# Altium footprint library POWERSO-20_self_useable.PcbLib: 1 footprints
Each footprint in its own frame and in the unit in brackets; x right, y up, seen from the top. Pads: shape width x height; smd on the part's side, far side on the other; paste and mask are expansions set on the pad; w line width, h text height; cw(c..) or ccw(c..) is an arc to the next point about the centre after c.
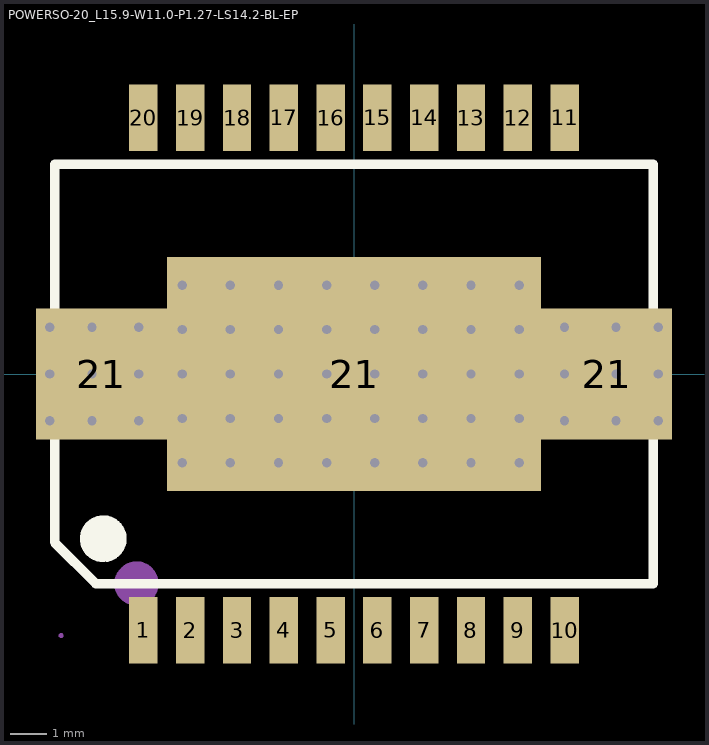
[diagram p0: the footprint, top view; thin cyan lines are the x and y axes]

## POWERSO-20_L15.9-W11.0-P1.27-LS14.2-BL-EP [mm]
pads (23):
  rect 0.772x1.8 smd paste+0 mask+0.051: 1(-5.715,-6.955) 2(-4.445,-6.958) 3(-3.175,-6.958) 4(-1.905,-6.958) 5(-0.635,-6.958) 6(0.635,-6.958) 7(1.905,-6.958) 8(3.175,-6.958) 9(4.445,-6.958) 10(5.715,-6.955) 11(5.715,6.955) 12(4.445,6.958) 13(3.175,6.958) 14(1.905,6.958) 15(0.635,6.958) 16(-0.635,6.958) 17(-1.905,6.958) 18(-3.175,6.958) 19(-4.445,6.958) 20(-5.715,6.955)
  rect 3.556x3.556 all layers, no hole: 21(-6.858,0) 21(6.858,0)
  rect 10.16x6.35 all layers, no hole: 21(0,0)
via -8.255,1.27 diameter 0.508 hole 0.254
via -7.112,1.27 diameter 0.508 hole 0.254
via -5.842,1.27 diameter 0.508 hole 0.254
via -8.255,0 diameter 0.508 hole 0.254
via -7.112,0 diameter 0.508 hole 0.254
via -5.842,0 diameter 0.508 hole 0.254
via -8.255,-1.27 diameter 0.508 hole 0.254
via -7.112,-1.27 diameter 0.508 hole 0.254
via -5.842,-1.27 diameter 0.508 hole 0.254
via -4.663,-2.413 diameter 0.508 hole 0.254
via -3.356,-2.413 diameter 0.508 hole 0.254
via -2.05,-2.413 diameter 0.508 hole 0.254
via -0.744,-2.413 diameter 0.508 hole 0.254
via 0.562,-2.413 diameter 0.508 hole 0.254
via 1.869,-2.413 diameter 0.508 hole 0.254
via 3.175,-2.413 diameter 0.508 hole 0.254
via 4.481,-2.413 diameter 0.508 hole 0.254
via -4.663,-1.206 diameter 0.508 hole 0.254
via -3.356,-1.206 diameter 0.508 hole 0.254
via -2.05,-1.206 diameter 0.508 hole 0.254
via -0.744,-1.206 diameter 0.508 hole 0.254
via 0.562,-1.206 diameter 0.508 hole 0.254
via 1.869,-1.206 diameter 0.508 hole 0.254
via 3.175,-1.206 diameter 0.508 hole 0.254
via 4.481,-1.206 diameter 0.508 hole 0.254
via -4.663,0 diameter 0.508 hole 0.254
via -3.356,0 diameter 0.508 hole 0.254
via -2.05,0 diameter 0.508 hole 0.254
via -0.744,0 diameter 0.508 hole 0.254
via 0.562,0 diameter 0.508 hole 0.254
via 1.869,0 diameter 0.508 hole 0.254
via 3.175,0 diameter 0.508 hole 0.254
via 4.481,0 diameter 0.508 hole 0.254
via -4.663,1.206 diameter 0.508 hole 0.254
via -3.356,1.206 diameter 0.508 hole 0.254
via -2.05,1.206 diameter 0.508 hole 0.254
via -0.744,1.206 diameter 0.508 hole 0.254
via 0.562,1.206 diameter 0.508 hole 0.254
via 1.869,1.206 diameter 0.508 hole 0.254
via 3.175,1.206 diameter 0.508 hole 0.254
via 4.481,1.206 diameter 0.508 hole 0.254
via 4.481,2.413 diameter 0.508 hole 0.254
via 3.175,2.413 diameter 0.508 hole 0.254
via 1.869,2.413 diameter 0.508 hole 0.254
via 0.562,2.413 diameter 0.508 hole 0.254
via -0.744,2.413 diameter 0.508 hole 0.254
via -2.05,2.413 diameter 0.508 hole 0.254
via -3.356,2.413 diameter 0.508 hole 0.254
via 8.255,-1.27 diameter 0.508 hole 0.254
via 7.112,-1.27 diameter 0.508 hole 0.254
via 5.715,-1.27 diameter 0.508 hole 0.254
via 8.255,0 diameter 0.508 hole 0.254
via 7.112,0 diameter 0.508 hole 0.254
via 5.715,0 diameter 0.508 hole 0.254
via 8.255,1.27 diameter 0.508 hole 0.254
via 7.112,1.27 diameter 0.508 hole 0.254
via 5.715,1.27 diameter 0.508 hole 0.254
via -4.663,2.413 diameter 0.508 hole 0.254
Top Overlay:
  circle w0.258: c-6.807,-4.471 r0.508
  circle w0.258: c-6.807,-4.471 r0.305
  circle w0.258: c-6.807,-4.471 r0.102
  lines w0.258: -8.128,-4.573 -7.01,-5.69 8.128,-5.69 8.128,5.689 -8.128,5.689 -8.128,-4.573
Mechanical 6:
  circle w0.6: c-5.904,-5.689 r0.3
Mechanical 15:
  region: -7.89,-7.101 -7.89,-7.076 -7.925,-7.041 -7.975,-7.041 -8.01,-7.076 -8.01,-7.101 -8.01,-7.125 -7.975,-7.161 -7.925,-7.161 -7.89,-7.125 -7.89,-7.101